# EAGLE library part HAUPTSCHUETZ_3-POL_ÖFFNER (library e-schuetze-relais)
Hauptschütz mit 3 Schließern
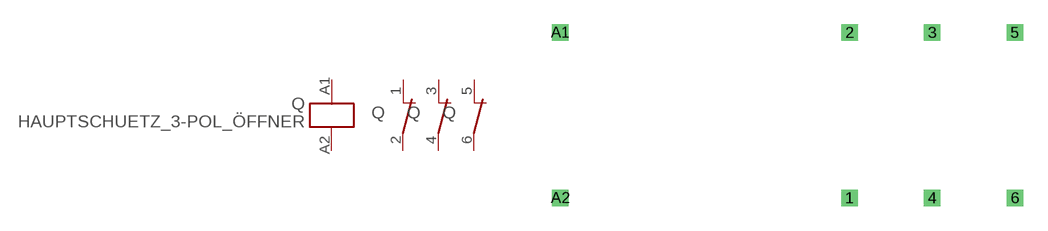
[diagram p12: symbol with the pads of HAUPTSCHUETZ_3-POL; footprint HAUPTSCHUETZ_3-POL]

Designator prefix Q; gates G$1=SPULE G$2=OEFFNER G$3=OEFFNER G$4=OEFFNER

## HAUPTSCHUETZ_3-POL_ÖFFNER  [HAUPTSCHUETZ_3-POL]
1  G$2:1  pas
2  G$2:2  pas
3  G$3:1  pas
4  G$3:2  pas
5  G$4:1  pas
6  G$4:2  pas
A1  G$1:A1  in
A2  G$1:A2  in

## Footprint HAUPTSCHUETZ_3-POL (pad centres in mm)
Dummy
drill 0.5 pad 1 square: 1 7.62,-7.62; 2 7.62,2.54; 3 12.7,2.54; 4 12.7,-7.62; 5 17.78,2.54; 6 17.78,-7.62; A1 -10.16,2.54; A2 -10.16,-7.62